# Altium schematic symbol library Resistor - Potentiometer.SchLib: 47 symbols
Pins are listed as number, name and electrical type; pins without a type are passive.

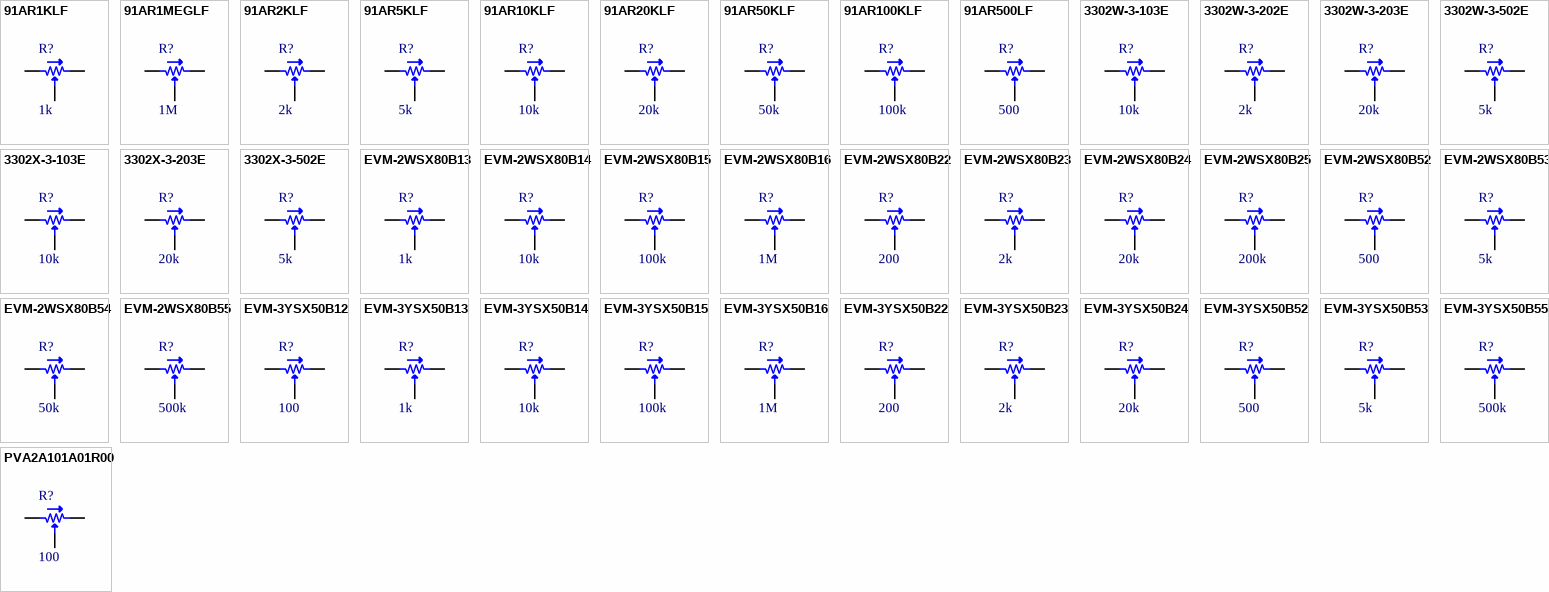
[diagram p0: symbols 91AR1KLF to PVA2A101A01R00]

## 91AR1KLF
designator R?, comment 1k
TRIMMER 1K OHM 3/8" CERMET TH; Part Number: 91AR1KLF; Manufacturer: TT Electronics/BI; Tolerance: 20%; PowerRating: 0.5W, 1/2W; Number Of Turns: Single; Adjustment Type: Top Adjustment; Value: 1k; PartId: 7163; Supplier 1: Digi-Key; Supplier Part Number 1: 987-1168-ND; ComponentLink1Description: Datasheet; ComponentLink1URL: http://www.bitechnologies.com/pdfs/91.pdf; ComponentLink2Description: Digi-Key Listing; ComponentLink2URL: http://www.digikey.ca/product-detail/en/91AR1KLF/987-1168-ND/2408746; Price: 2.25; Type: Through Hole
footprint POT MODEL91A
pins: 1, 2, 3

## 91AR1MEGLF
designator R?, comment 1M
TRIMMER 1M OHM 3/8" CERMET TH; Part Number: 91AR1MEGLF; Manufacturer: TT Electronics/BI; Tolerance: 20%; PowerRating: 0.5W, 1/2W; Number Of Turns: Single; Adjustment Type: Top Adjustment; Value: 1M; PartId: 7170; Supplier 1: Digi-Key; Supplier Part Number 1: 987-1169-ND; ComponentLink1Description: Datasheet; ComponentLink1URL: http://www.bitechnologies.com/pdfs/91.pdf; ComponentLink2Description: Digi-Key Listing; ComponentLink2URL: http://www.digikey.ca/product-detail/en/91AR1MEGLF/987-1169-ND/2408747; Price: 1.88; Type: Through Hole
footprint POT MODEL91A
pins: 1, 2, 3

## 91AR2KLF
designator R?, comment 2k
TRIMMER 2K OHM 3/8" CERMET TH; Part Number: 91AR2KLF; Manufacturer: TT Electronics/BI; Tolerance: 20%; PowerRating: 0.5W, 1/2W; Number Of Turns: Single; Adjustment Type: Top Adjustment; Value: 2k; PartId: 7164; Supplier 1: Digi-Key; Supplier Part Number 1: 987-1624-ND; ComponentLink1Description: Datasheet; ComponentLink1URL: http://www.bitechnologies.com/pdfs/91.pdf; ComponentLink2Description: Digi-Key Listing; ComponentLink2URL: http://www.digikey.ca/product-detail/en/91AR2KLF/987-1624-ND/3945850; Price: 2.25; Type: Through Hole
footprint POT MODEL91A
pins: 1, 2, 3

## 91AR5KLF
designator R?, comment 5k
TRIMMER 5K OHM 3/8" CERMET TH; Part Number: 91AR5KLF; Manufacturer: TT Electronics/BI; Tolerance: 20%; PowerRating: 0.5W, 1/2W; Number Of Turns: Single; Adjustment Type: Top Adjustment; Value: 5k; PartId: 7165; Supplier 1: Digi-Key; Supplier Part Number 1: 987-1171-ND; ComponentLink1Description: Datasheet; ComponentLink1URL: http://www.bitechnologies.com/pdfs/91.pdf; ComponentLink2Description: Digi-Key Listing; ComponentLink2URL: http://www.digikey.ca/product-detail/en/91AR5KLF/987-1171-ND/2408749; Price: 1.88; Type: Through Hole
footprint POT MODEL91A
pins: 1, 2, 3

## 91AR10KLF
designator R?, comment 10k
TRIMMER 10K OHM 3/8" CERMET TH; Part Number: 91AR10KLF; Manufacturer: TT Electronics/BI; Tolerance: 20%; PowerRating: 0.5W, 1/2W; Number Of Turns: Single; Adjustment Type: Top Adjustment; Value: 10k; PartId: 7166; Supplier 1: Digi-Key; Supplier Part Number 1: 987-1167-ND; ComponentLink1Description: Datasheet; ComponentLink1URL: http://www.bitechnologies.com/pdfs/91.pdf; ComponentLink2Description: Digi-Key Listing; ComponentLink2URL: http://www.digikey.ca/product-detail/en/91AR10KLF/987-1167-ND/2408745; Price: 2.25; Type: Through Hole
footprint POT MODEL91A
pins: 1, 2, 3

## 91AR20KLF
designator R?, comment 20k
TRIMMER 20K OHM 3/8" CERMET TH; Part Number: 91AR20KLF; Manufacturer: TT Electronics/BI; Tolerance: 20%; PowerRating: 0.5W, 1/2W; Number Of Turns: Single; Adjustment Type: Top Adjustment; Value: 20k; PartId: 7167; Supplier 1: Digi-Key; Supplier Part Number 1: 987-1170-ND; ComponentLink1Description: Datasheet; ComponentLink1URL: http://www.bitechnologies.com/pdfs/91.pdf; ComponentLink2Description: Digi-Key Listing; ComponentLink2URL: http://www.digikey.ca/product-detail/en/91AR20KLF/987-1170-ND/2408748; Price: 2.25; Type: Through Hole
footprint POT MODEL91A
pins: 1, 2, 3

## 91AR50KLF
designator R?, comment 50k
TRIMMER 50K OHM 3/8" CERMET TH; Part Number: 91AR50KLF; Manufacturer: TT Electronics/BI; Tolerance: 20%; PowerRating: 0.5W, 1/2W; Number Of Turns: Single; Adjustment Type: Top Adjustment; Value: 50k; PartId: 7168; Supplier 1: Digi-Key; Supplier Part Number 1: 987-1625-ND; ComponentLink1Description: Datasheet; ComponentLink1URL: http://www.bitechnologies.com/pdfs/91.pdf; ComponentLink2Description: Digi-Key Listing; ComponentLink2URL: http://www.digikey.ca/product-detail/en/91AR50KLF/987-1625-ND/3945849; Price: 2.25; Type: Through Hole
footprint POT MODEL91A
pins: 1, 2, 3

## 91AR100KLF
designator R?, comment 100k
TRIMMER 100K OHM 3/8" CERMET TH; Part Number: 91AR100KLF; Manufacturer: TT Electronics/BI; Tolerance: 20%; PowerRating: 0.5W, 1/2W; Number Of Turns: Single; Adjustment Type: Top Adjustment; Value: 100k; PartId: 7169; Supplier 1: Digi-Key; Supplier Part Number 1: 987-1166-ND; ComponentLink1Description: Datasheet; ComponentLink1URL: http://www.bitechnologies.com/pdfs/91.pdf; ComponentLink2Description: Digi-Key Listing; ComponentLink2URL: http://www.digikey.ca/product-detail/en/91AR100KLF/987-1166-ND/2408744; Price: 2.25; Type: Through Hole
footprint POT MODEL91A
pins: 1, 2, 3

## 91AR500LF
designator R?, comment 500
TRIMMER 500 OHM 3/8" CERMET TH; Part Number: 91AR500LF; Manufacturer: TT Electronics/BI; Tolerance: 20%; PowerRating: 0.5W, 1/2W; Number Of Turns: Single; Adjustment Type: Top Adjustment; Value: 500; PartId: 7162; Supplier 1: Digi-Key; Supplier Part Number 1: 987-1564-ND; ComponentLink1Description: Datasheet; ComponentLink1URL: http://www.bitechnologies.com/pdfs/91.pdf; ComponentLink2Description: Digi-Key Listing; ComponentLink2URL: http://www.digikey.ca/product-detail/en/91AR500LF/987-1564-ND/3587322; Price: 2.25; Type: Through Hole
footprint POT MODEL91A
pins: 1, 2, 3

## 3302W-3-103E
designator R?, comment 10k
TRIMMER 10K OHM 0.15W SMD; Part Number: 3302W-3-103E; Manufacturer: Bourns Inc.; TemperatureCoefficient: 250ppm/C; Tolerance: 25%; Number Of Turns: 1; Adjustment Type: Top Adjustment; Value: 10k; PartId: 29445; Supplier 1: Digi-Key; Supplier Part Number 1: 3302W-103ECT-ND; ComponentLink1Description: Datasheet; ComponentLink1URL: http://www.bourns.com/docs/Product-Datasheets/3302.pdf; ComponentLink2Description: Digi-Key Listing; ComponentLink2URL: https://www.digikey.com/product-detail/en/bourns-inc/3302W-3-103E/3302W-103ECT-ND/612876; PowerRating: 0.15W; Price: 0.97
footprint POT BOURNS TRIMPOT 3302
pins: 1, 2, 3

## 3302W-3-202E
designator R?, comment 2k
TRIMMER 2K OHM 0.15W SMD; Part Number: 3302W-3-202E; Manufacturer: Bourns Inc.; TemperatureCoefficient: 250ppm/C; Tolerance: 25%; Number Of Turns: 1; Adjustment Type: Top Adjustment; Value: 2k; PartId: 29441; Supplier 1: Digi-Key; Supplier Part Number 1: 3302W-3-202ECT-ND; ComponentLink1Description: Datasheet; ComponentLink1URL: http://www.bourns.com/docs/Product-Datasheets/3302.pdf; ComponentLink2Description: Digi-Key Listing; ComponentLink2URL: https://www.digikey.com/product-detail/en/bourns-inc/3302W-3-202E/3302W-3-202ECT-ND/612877; PowerRating: 0.15W; Price: 0.97
footprint POT BOURNS TRIMPOT 3302
pins: 1, 2, 3

## 3302W-3-203E
designator R?, comment 20k
TRIMMER 20K OHM 0.15W SMD; Part Number: 3302W-3-203E; Manufacturer: Bourns Inc.; TemperatureCoefficient: 250ppm/C; Tolerance: 25%; Number Of Turns: 1; Adjustment Type: Top Adjustment; Value: 20k; PartId: 29442; Supplier 1: Digi-Key; Supplier Part Number 1: 3302W-203ECT-ND; ComponentLink1Description: Datasheet; ComponentLink1URL: http://www.bourns.com/docs/Product-Datasheets/3302.pdf; ComponentLink2Description: Digi-Key Listing; ComponentLink2URL: https://www.digikey.com/product-detail/en/bourns-inc/3302W-3-203E/3302W-203ECT-ND/612878; PowerRating: 0.15W; Price: 0.97
footprint POT BOURNS TRIMPOT 3302
pins: 1, 2, 3

## 3302W-3-502E
designator R?, comment 5k
TRIMMER 5K OHM 0.15W SMD; Part Number: 3302W-3-502E; Manufacturer: Bourns Inc.; TemperatureCoefficient: 250ppm/C; Tolerance: 25%; Number Of Turns: 1; Adjustment Type: Top Adjustment; Value: 5k; PartId: 29440; Supplier 1: Digi-Key; Supplier Part Number 1: 3302W-502ECT-ND; ComponentLink1Description: Datasheet; ComponentLink1URL: http://www.bourns.com/docs/Product-Datasheets/3302.pdf; ComponentLink2Description: Digi-Key Listing; ComponentLink2URL: https://www.digikey.com/product-detail/en/bourns-inc/3302W-3-502E/3302W-502ECT-ND/612879; PowerRating: 0.15W; Price: 0.97
footprint POT BOURNS TRIMPOT 3302
pins: 1, 2, 3

## 3302X-3-103E
designator R?, comment 10k
TRIMMER 10K OHM 0.15W SMD; Part Number: 3302X-3-103E; Manufacturer: Bourns Inc.; TemperatureCoefficient: 250ppm/C; Tolerance: 25%; Number Of Turns: 1; Adjustment Type: Top Adjustment; Value: 10k; PartId: 29443; Supplier 1: Digi-Key; Supplier Part Number 1: 3302X-103ECT-ND; ComponentLink1Description: Datasheet; ComponentLink1URL: http://www.bourns.com/docs/Product-Datasheets/3302.pdf; ComponentLink2Description: Digi-Key Listing; ComponentLink2URL: https://www.digikey.com/product-detail/en/bourns-inc/3302X-3-103E/3302X-103ECT-ND/612880; PowerRating: 0.15W; Price: 0.97
footprint POT BOURNS TRIMPOT 3302
pins: 1, 2, 3

## 3302X-3-203E
designator R?, comment 20k
TRIMMER 20K OHM 0.15W SMD; Part Number: 3302X-3-203E; Manufacturer: Bourns Inc.; TemperatureCoefficient: 250ppm/C; Tolerance: 25%; Number Of Turns: 1; Adjustment Type: Top Adjustment; Value: 20k; PartId: 29446; Supplier 1: Digi-Key; Supplier Part Number 1: 3302X-203ECT-ND; ComponentLink1Description: Datasheet; ComponentLink1URL: http://www.bourns.com/docs/Product-Datasheets/3302.pdf; ComponentLink2Description: Digi-Key Listing; ComponentLink2URL: https://www.digikey.com/product-detail/en/bourns-inc/3302X-3-203E/3302X-203ECT-ND/612881; PowerRating: 0.15W; Price: 0.97
footprint POT BOURNS TRIMPOT 3302
pins: 1, 2, 3

## 3302X-3-502E
designator R?, comment 5k
TRIMMER 5K OHM 0.15W SMD; Part Number: 3302X-3-502E; Manufacturer: Bourns Inc.; TemperatureCoefficient: 250ppm/C; Tolerance: 25%; Number Of Turns: 1; Adjustment Type: Top Adjustment; Value: 5k; PartId: 29444; Supplier 1: Digi-Key; Supplier Part Number 1: 3302X-502ECT-ND; ComponentLink1Description: Datasheet; ComponentLink1URL: http://www.bourns.com/docs/Product-Datasheets/3302.pdf; ComponentLink2Description: Digi-Key Listing; ComponentLink2URL: https://www.digikey.com/product-detail/en/bourns-inc/3302X-3-502E/3302X-502ECT-ND/612882; PowerRating: 0.15W; Price: 0.97
footprint POT BOURNS TRIMPOT 3302
pins: 1, 2, 3

## EVM-2WSX80B13
designator R?, comment 1k
TRIMMER 1K OHM 0.15W SMD; Part Number: EVM-2WSX80B13; Manufacturer: Panasonic Electronic Components; TemperatureCoefficient: 250ppm/C; Tolerance: 25%; Number Of Turns: 1; Adjustment Type: Top Adjustment; Value: 1k; PartId: 9789; Supplier 1: Digi-Key; Supplier Part Number 1: P2W102TR-ND; ComponentLink1Description: Datasheet; ComponentLink1URL: http://industrial.panasonic.com/cdbs/www-data/pdf/AOI0000/AOI0000CE1.pdf; ComponentLink2Description: Digi-Key Listing; ComponentLink2URL: https://www.digikey.com/product-detail/en/panasonic-electronic-components/EVM-2WSX80B13/P2W102TR-ND/259723; PowerRating: 0.15W; Price: 0.2394
footprint POT PANASONIC EVM2W
pins: 1, 2, 3

## EVM-2WSX80B14
designator R?, comment 10k
TRIMMER 10K OHM 0.15W SMD; Part Number: EVM-2WSX80B14; Manufacturer: Panasonic Electronic Components; TemperatureCoefficient: 250ppm/C; Tolerance: 25%; Number Of Turns: 1; Adjustment Type: Top Adjustment; Value: 10k; PartId: 9780; Supplier 1: Digi-Key; Supplier Part Number 1: P2W103TR-ND; ComponentLink1Description: Datasheet; ComponentLink1URL: http://industrial.panasonic.com/cdbs/www-data/pdf/AOI0000/AOI0000CE1.pdf; ComponentLink2Description: Digi-Key Listing; ComponentLink2URL: https://www.digikey.com/product-detail/en/panasonic-electronic-components/EVM-2WSX80B14/P2W103TR-ND/259724; PowerRating: 0.15W; Price: 0.2394
footprint POT PANASONIC EVM2W
pins: 1, 2, 3

## EVM-2WSX80B15
designator R?, comment 100k
TRIMMER 100K OHM 0.15W SMD; Part Number: EVM-2WSX80B15; Manufacturer: Panasonic Electronic Components; TemperatureCoefficient: 250ppm/C; Tolerance: 25%; Number Of Turns: 1; Adjustment Type: Top Adjustment; Value: 100k; PartId: 9790; Supplier 1: Digi-Key; Supplier Part Number 1: P2W104TR-ND; ComponentLink1Description: Datasheet; ComponentLink1URL: http://industrial.panasonic.com/cdbs/www-data/pdf/AOI0000/AOI0000CE1.pdf; ComponentLink2Description: Digi-Key Listing; ComponentLink2URL: https://www.digikey.com/product-detail/en/panasonic-electronic-components/EVM-2WSX80B15/P2W104TR-ND/259725; PowerRating: 0.15W; Price: 0.2394
footprint POT PANASONIC EVM2W
pins: 1, 2, 3

## EVM-2WSX80B16
designator R?, comment 1M
TRIMMER 1M OHM 0.15W SMD; Part Number: EVM-2WSX80B16; Manufacturer: Panasonic Electronic Components; TemperatureCoefficient: 250ppm/C; Tolerance: 25%; Number Of Turns: 1; Adjustment Type: Top Adjustment; Value: 1M; PartId: 9786; Supplier 1: Digi-Key; Supplier Part Number 1: P2W105TR-ND; ComponentLink1Description: Datasheet; ComponentLink1URL: http://industrial.panasonic.com/cdbs/www-data/pdf/AOI0000/AOI0000CE1.pdf; ComponentLink2Description: Digi-Key Listing; ComponentLink2URL: https://www.digikey.com/product-detail/en/panasonic-electronic-components/EVM-2WSX80B16/P2W105TR-ND/259726; PowerRating: 0.15W; Price: 0.2394
footprint POT PANASONIC EVM2W
pins: 1, 2, 3

## EVM-2WSX80B22
designator R?, comment 200
TRIMMER 200 OHM 0.15W SMD; Part Number: EVM-2WSX80B22; Manufacturer: Panasonic Electronic Components; TemperatureCoefficient: 250ppm/C; Tolerance: 25%; Number Of Turns: 1; Adjustment Type: Top Adjustment; Value: 200; PartId: 9779; Supplier 1: Digi-Key; Supplier Part Number 1: P2W201TR-ND; ComponentLink1Description: Datasheet; ComponentLink1URL: http://industrial.panasonic.com/cdbs/www-data/pdf/AOI0000/AOI0000CE1.pdf; ComponentLink2Description: Digi-Key Listing; ComponentLink2URL: https://www.digikey.com/product-detail/en/panasonic-electronic-components/EVM-2WSX80B22/P2W201TR-ND/259727; PowerRating: 0.15W; Price: 0.2394
footprint POT PANASONIC EVM2W
pins: 1, 2, 3

## EVM-2WSX80B23
designator R?, comment 2k
TRIMMER 2K OHM 0.15W SMD; Part Number: EVM-2WSX80B23; Manufacturer: Panasonic Electronic Components; TemperatureCoefficient: 250ppm/C; Tolerance: 25%; Number Of Turns: 1; Adjustment Type: Top Adjustment; Value: 2k; PartId: 9784; Supplier 1: Digi-Key; Supplier Part Number 1: P2W202TR-ND; ComponentLink1Description: Datasheet; ComponentLink1URL: http://industrial.panasonic.com/cdbs/www-data/pdf/AOI0000/AOI0000CE1.pdf; ComponentLink2Description: Digi-Key Listing; ComponentLink2URL: https://www.digikey.com/product-detail/en/panasonic-electronic-components/EVM-2WSX80B23/P2W202TR-ND/259728; PowerRating: 0.15W; Price: 0.2394
footprint POT PANASONIC EVM2W
pins: 1, 2, 3

## EVM-2WSX80B24
designator R?, comment 20k
TRIMMER 20K OHM 0.15W SMD; Part Number: EVM-2WSX80B24; Manufacturer: Panasonic Electronic Components; TemperatureCoefficient: 250ppm/C; Tolerance: 25%; Number Of Turns: 1; Adjustment Type: Top Adjustment; Value: 20k; PartId: 9781; Supplier 1: Digi-Key; Supplier Part Number 1: P2W203TR-ND; ComponentLink1Description: Datasheet; ComponentLink1URL: http://industrial.panasonic.com/cdbs/www-data/pdf/AOI0000/AOI0000CE1.pdf; ComponentLink2Description: Digi-Key Listing; ComponentLink2URL: https://www.digikey.com/product-detail/en/panasonic-electronic-components/EVM-2WSX80B24/P2W203TR-ND/259729; PowerRating: 0.15W; Price: 0.2394
footprint POT PANASONIC EVM2W
pins: 1, 2, 3

## EVM-2WSX80B25
designator R?, comment 200k
TRIMMER 200K OHM 0.15W SMD; Part Number: EVM-2WSX80B25; Manufacturer: Panasonic Electronic Components; TemperatureCoefficient: 250ppm/C; Tolerance: 25%; Number Of Turns: 1; Adjustment Type: Top Adjustment; Value: 200k; PartId: 9788; Supplier 1: Digi-Key; Supplier Part Number 1: P2W204TR-ND; ComponentLink1Description: Datasheet; ComponentLink1URL: http://industrial.panasonic.com/cdbs/www-data/pdf/AOI0000/AOI0000CE1.pdf; ComponentLink2Description: Digi-Key Listing; ComponentLink2URL: https://www.digikey.com/product-detail/en/panasonic-electronic-components/EVM-2WSX80B25/P2W204TR-ND/259730; PowerRating: 0.15W; Price: 0.2394
footprint POT PANASONIC EVM2W
pins: 1, 2, 3

## EVM-2WSX80B52
designator R?, comment 500
TRIMMER 500 OHM 0.15W SMD; Part Number: EVM-2WSX80B52; Manufacturer: Panasonic Electronic Components; TemperatureCoefficient: 250ppm/C; Tolerance: 25%; Number Of Turns: 1; Adjustment Type: Top Adjustment; Value: 500; PartId: 9785; Supplier 1: Digi-Key; Supplier Part Number 1: P2W501TR-ND; ComponentLink1Description: Datasheet; ComponentLink1URL: http://industrial.panasonic.com/cdbs/www-data/pdf/AOI0000/AOI0000CE1.pdf; ComponentLink2Description: Digi-Key Listing; ComponentLink2URL: https://www.digikey.com/product-detail/en/panasonic-electronic-components/EVM-2WSX80B52/P2W501TR-ND/259731; PowerRating: 0.15W; Price: 0.2394
footprint POT PANASONIC EVM2W
pins: 1, 2, 3

## EVM-2WSX80B53
designator R?, comment 5k
TRIMMER 5K OHM 0.15W SMD; Part Number: EVM-2WSX80B53; Manufacturer: Panasonic Electronic Components; TemperatureCoefficient: 250ppm/C; Tolerance: 25%; Number Of Turns: 1; Adjustment Type: Top Adjustment; Value: 5k; PartId: 9782; Supplier 1: Digi-Key; Supplier Part Number 1: P2W502TR-ND; ComponentLink1Description: Datasheet; ComponentLink1URL: http://industrial.panasonic.com/cdbs/www-data/pdf/AOI0000/AOI0000CE1.pdf; ComponentLink2Description: Digi-Key Listing; ComponentLink2URL: https://www.digikey.com/product-detail/en/panasonic-electronic-components/EVM-2WSX80B53/P2W502TR-ND/259732; PowerRating: 0.15W; Price: 0.2394
footprint POT PANASONIC EVM2W
pins: 1, 2, 3

## EVM-2WSX80B54
designator R?, comment 50k
TRIMMER 50K OHM 0.15W SMD; Part Number: EVM-2WSX80B54; Manufacturer: Panasonic Electronic Components; TemperatureCoefficient: 250ppm/C; Tolerance: 25%; Number Of Turns: 1; Adjustment Type: Top Adjustment; Value: 50k; PartId: 9783; Supplier 1: Digi-Key; Supplier Part Number 1: P2W503TR-ND; ComponentLink1Description: Datasheet; ComponentLink1URL: http://industrial.panasonic.com/cdbs/www-data/pdf/AOI0000/AOI0000CE1.pdf; ComponentLink2Description: Digi-Key Listing; ComponentLink2URL: https://www.digikey.com/product-detail/en/panasonic-electronic-components/EVM-2WSX80B54/P2W503TR-ND/259733; PowerRating: 0.15W; Price: 0.2394
footprint POT PANASONIC EVM2W
pins: 1, 2, 3

## EVM-2WSX80B55
designator R?, comment 500k
TRIMMER 500K OHM 0.15W SMD; Part Number: EVM-2WSX80B55; Manufacturer: Panasonic Electronic Components; TemperatureCoefficient: 250ppm/C; Tolerance: 25%; Number Of Turns: 1; Adjustment Type: Top Adjustment; Value: 500k; PartId: 9787; Supplier 1: Digi-Key; Supplier Part Number 1: P2W504TR-ND; ComponentLink1Description: Datasheet; ComponentLink1URL: http://industrial.panasonic.com/cdbs/www-data/pdf/AOI0000/AOI0000CE1.pdf; ComponentLink2Description: Digi-Key Listing; ComponentLink2URL: https://www.digikey.com/product-detail/en/panasonic-electronic-components/EVM-2WSX80B55/P2W504TR-ND/259734; PowerRating: 0.15W; Price: 0.2394
footprint POT PANASONIC EVM2W
pins: 1, 2, 3

## EVM-3YSX50B12
designator R?, comment 100
TRIMMER 100 OHM 0.15W SMD; Part Number: EVM-3YSX50B12; Manufacturer: Panasonic Electronic Components; TemperatureCoefficient: 250ppm/C; Tolerance: 25%; Number Of Turns: Single; Adjustment Type: Top Adjustment; Value: 100; PartId: 7176; Supplier 1: Digi-Key; Supplier Part Number 1: P3Y101TR-ND; ComponentLink1Description: Datasheet; ComponentLink1URL: http://media.digikey.com/pdf/Data%20Sheets/Panasonic%20Resistors%20Thermistors%20PDFs/EVM-3Y_S_R_Rev2010.pdf; ComponentLink2Description: Digi-Key Listing; ComponentLink2URL: http://www.digikey.ca/product-detail/en/EVM-3YSX50B12/P3Y101TR-ND/259771; PowerRating: 0.15W; Price: 0.2543; Type: Surface Mount
footprint POT Panasonic EVM
pins: 1, 2, 3

## EVM-3YSX50B13
designator R?, comment 1k
TRIMMER 1K OHM 0.15W SMD; Part Number: EVM-3YSX50B13; Manufacturer: Panasonic Electronic Components; TemperatureCoefficient: 250ppm/C; Tolerance: 25%; Number Of Turns: Single; Adjustment Type: Top Adjustment; Value: 1k; PartId: 7171; Supplier 1: Digi-Key; Supplier Part Number 1: P3Y102TR-ND; ComponentLink1Description: Datasheet; ComponentLink1URL: http://media.digikey.com/pdf/Data%20Sheets/Panasonic%20Resistors%20Thermistors%20PDFs/EVM-3Y_S_R_Rev2010.pdf; ComponentLink2Description: Digi-Key Listing; ComponentLink2URL: http://www.digikey.ca/product-detail/en/EVM-3YSX50B13/P3Y102TR-ND/259772; PowerRating: 0.15W; Price: 0.2543; Type: Surface Mount
footprint POT Panasonic EVM
pins: 1, 2, 3

## EVM-3YSX50B14
designator R?, comment 10k
TRIMMER 10K OHM 0.15W SMD; Part Number: EVM-3YSX50B14; Manufacturer: Panasonic Electronic Components; TemperatureCoefficient: 250ppm/C; Tolerance: 25%; Number Of Turns: Single; Adjustment Type: Top Adjustment; Value: 10k; PartId: 7172; Supplier 1: Digi-Key; Supplier Part Number 1: P3Y103TR-ND; ComponentLink1Description: Datasheet; ComponentLink1URL: http://media.digikey.com/pdf/Data%20Sheets/Panasonic%20Resistors%20Thermistors%20PDFs/EVM-3Y_S_R_Rev2010.pdf; ComponentLink2Description: Digi-Key Listing; ComponentLink2URL: http://www.digikey.ca/product-detail/en/EVM-3YSX50B14/P3Y103TR-ND/259773; PowerRating: 0.15W; Price: 0.2543; Type: Surface Mount
footprint POT Panasonic EVM
pins: 1, 2, 3

## EVM-3YSX50B15
designator R?, comment 100k
TRIMMER 100K OHM 0.15W SMD; Part Number: EVM-3YSX50B15; Manufacturer: Panasonic Electronic Components; TemperatureCoefficient: 250ppm/C; Tolerance: 25%; Number Of Turns: Single; Adjustment Type: Top Adjustment; Value: 100k; PartId: 7174; Supplier 1: Digi-Key; Supplier Part Number 1: P3Y104TR-ND; ComponentLink1Description: Datasheet; ComponentLink1URL: http://media.digikey.com/pdf/Data%20Sheets/Panasonic%20Resistors%20Thermistors%20PDFs/EVM-3Y_S_R_Rev2010.pdf; ComponentLink2Description: Digi-Key Listing; ComponentLink2URL: http://www.digikey.ca/product-detail/en/EVM-3YSX50B15/P3Y104TR-ND/259774; PowerRating: 0.15W; Price: 0.2543; Type: Surface Mount
footprint POT Panasonic EVM
pins: 1, 2, 3

## EVM-3YSX50B16
designator R?, comment 1M
TRIMMER 1M OHM 0.15W SMD; Part Number: EVM-3YSX50B16; Manufacturer: Panasonic Electronic Components; TemperatureCoefficient: 250ppm/C; Tolerance: 25%; Number Of Turns: Single; Adjustment Type: Top Adjustment; Value: 1M; PartId: 7180; Supplier 1: Digi-Key; Supplier Part Number 1: P3Y105TR-ND; ComponentLink1Description: Datasheet; ComponentLink1URL: http://media.digikey.com/pdf/Data%20Sheets/Panasonic%20Resistors%20Thermistors%20PDFs/EVM-3Y_S_R_Rev2010.pdf; ComponentLink2Description: Digi-Key Listing; ComponentLink2URL: http://www.digikey.ca/product-detail/en/EVM-3YSX50B16/P3Y105TR-ND/259775; PowerRating: 0.15W; Price: 0.2543; Type: Surface Mount
footprint POT Panasonic EVM
pins: 1, 2, 3

## EVM-3YSX50B22
designator R?, comment 200
TRIMMER 200 OHM 0.15W SMD; Part Number: EVM-3YSX50B22; Manufacturer: Panasonic Electronic Components; TemperatureCoefficient: 250ppm/C; Tolerance: 25%; Number Of Turns: Single; Adjustment Type: Top Adjustment; Value: 200; PartId: 7173; Supplier 1: Digi-Key; Supplier Part Number 1: P3Y201TR-ND; ComponentLink1Description: Datasheet; ComponentLink1URL: http://media.digikey.com/pdf/Data%20Sheets/Panasonic%20Resistors%20Thermistors%20PDFs/EVM-3Y_S_R_Rev2010.pdf; ComponentLink2Description: Digi-Key Listing; ComponentLink2URL: http://www.digikey.ca/product-detail/en/EVM-3YSX50B22/P3Y201TR-ND/259776; PowerRating: 0.15W; Price: 0.2543; Type: Surface Mount
footprint POT Panasonic EVM
pins: 1, 2, 3

## EVM-3YSX50B23
designator R?, comment 2k
TRIMMER 2K OHM 0.15W SMD; Part Number: EVM-3YSX50B23; Manufacturer: Panasonic Electronic Components; TemperatureCoefficient: 250ppm/C; Tolerance: 25%; Number Of Turns: Single; Adjustment Type: Top Adjustment; Value: 2k; PartId: 7179; Supplier 1: Digi-Key; Supplier Part Number 1: P3Y202TR-ND; ComponentLink1Description: Datasheet; ComponentLink1URL: http://media.digikey.com/pdf/Data%20Sheets/Panasonic%20Resistors%20Thermistors%20PDFs/EVM-3Y_S_R_Rev2010.pdf; ComponentLink2Description: Digi-Key Listing; ComponentLink2URL: http://www.digikey.ca/product-detail/en/EVM-3YSX50B23/P3Y202TR-ND/259777; PowerRating: 0.15W; Price: 0.2543; Type: Surface Mount
footprint POT Panasonic EVM
pins: 1, 2, 3

## EVM-3YSX50B24
designator R?, comment 20k
TRIMMER 20K OHM 0.15W SMD; Part Number: EVM-3YSX50B24; Manufacturer: Panasonic Electronic Components; TemperatureCoefficient: 250ppm/C; Tolerance: 25%; Number Of Turns: Single; Adjustment Type: Top Adjustment; Value: 20k; PartId: 7177; Supplier 1: Digi-Key; Supplier Part Number 1: P3Y203TR-ND; ComponentLink1Description: Datasheet; ComponentLink1URL: http://media.digikey.com/pdf/Data%20Sheets/Panasonic%20Resistors%20Thermistors%20PDFs/EVM-3Y_S_R_Rev2010.pdf; ComponentLink2Description: Digi-Key Listing; ComponentLink2URL: http://www.digikey.ca/product-detail/en/EVM-3YSX50B24/P3Y203TR-ND/259778; PowerRating: 0.15W; Price: 0.2543; Type: Surface Mount
footprint POT Panasonic EVM
pins: 1, 2, 3

## EVM-3YSX50B52
designator R?, comment 500
TRIMMER 500 OHM 0.15W SMD; Part Number: EVM-3YSX50B52; Manufacturer: Panasonic Electronic Components; TemperatureCoefficient: 250ppm/C; Tolerance: 25%; Number Of Turns: Single; Adjustment Type: Top Adjustment; Value: 500; PartId: 7175; Supplier 1: Digi-Key; Supplier Part Number 1: P3Y501TR-ND; ComponentLink1Description: Datasheet; ComponentLink1URL: http://media.digikey.com/pdf/Data%20Sheets/Panasonic%20Resistors%20Thermistors%20PDFs/EVM-3Y_S_R_Rev2010.pdf; ComponentLink2Description: Digi-Key Listing; ComponentLink2URL: http://www.digikey.ca/product-detail/en/EVM-3YSX50B52/P3Y501TR-ND/259780; PowerRating: 0.15W; Price: 0.2543; Type: Surface Mount
footprint POT Panasonic EVM
pins: 1, 2, 3

## EVM-3YSX50B53
designator R?, comment 5k
TRIMMER 5K OHM 0.15W SMD; Part Number: EVM-3YSX50B53; Manufacturer: Panasonic Electronic Components; TemperatureCoefficient: 250ppm/C; Tolerance: 25%; Number Of Turns: Single; Adjustment Type: Top Adjustment; Value: 5k; PartId: 7178; Supplier 1: Digi-Key; Supplier Part Number 1: P3Y502TR-ND; ComponentLink1Description: Datasheet; ComponentLink1URL: http://media.digikey.com/pdf/Data%20Sheets/Panasonic%20Resistors%20Thermistors%20PDFs/EVM-3Y_S_R_Rev2010.pdf; ComponentLink2Description: Digi-Key Listing; ComponentLink2URL: http://www.digikey.ca/product-detail/en/EVM-3YSX50B53/P3Y502TR-ND/259781; PowerRating: 0.15W; Price: 0.2543; Type: Surface Mount
footprint POT Panasonic EVM
pins: 1, 2, 3

## EVM-3YSX50B55
designator R?, comment 500k
TRIMMER 500K OHM 0.15W SMD; Part Number: EVM-3YSX50B55; Manufacturer: Panasonic Electronic Components; TemperatureCoefficient: 250ppm/C; Tolerance: 25%; Number Of Turns: Single; Adjustment Type: Top Adjustment; Value: 500k; PartId: 7181; Supplier 1: Digi-Key; Supplier Part Number 1: P3Y504TR-ND; ComponentLink1Description: Datasheet; ComponentLink1URL: http://media.digikey.com/pdf/Data%20Sheets/Panasonic%20Resistors%20Thermistors%20PDFs/EVM-3Y_S_R_Rev2010.pdf; ComponentLink2Description: Digi-Key Listing; ComponentLink2URL: http://www.digikey.ca/product-detail/en/EVM-3YSX50B55/P3Y504TR-ND/259783; PowerRating: 0.15W; Price: 0.2543; Type: Surface Mount
footprint POT Panasonic EVM
pins: 1, 2, 3

## PVA2A101A01R00
designator R?, comment 100
TRIMMER 100 OHM 0.1W SMD; Part Number: PVA2A101A01R00; Manufacturer: Murata Electronics North America; TemperatureCoefficient: 250ppm/C; Tolerance: 25%; PowerRating: 0.1W, 1/10W; Number Of Turns: Single; Adjustment Type: Top Adjustment; Value: 100; PartId: 7182; Supplier 1: Digi-Key; Supplier Part Number 1: 490-3915-2-ND; ComponentLink1Description: Datasheet; ComponentLink1URL: http://search.murata.co.jp/Ceramy/image/img/w_hinm/L0060E.pdf; ComponentLink2Description: Digi-Key Listing; ComponentLink2URL: http://www.digikey.ca/product-detail/en/PVA2A101A01R00/490-3915-2-ND/966653; Price: 0.229; Type: Surface Mount
footprint POT Murata PVA2
pins: 1, 2, 3

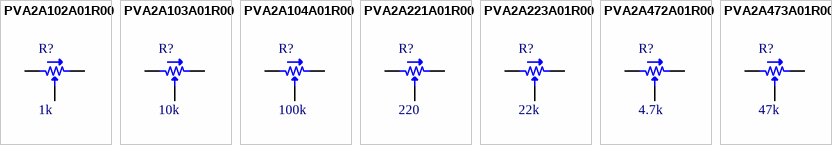
[diagram p1: symbols PVA2A102A01R00 to PVA2A473A01R00]

## PVA2A102A01R00
designator R?, comment 1k
TRIMMER 1K OHM 0.1W SMD; Part Number: PVA2A102A01R00; Manufacturer: Murata Electronics North America; TemperatureCoefficient: 250ppm/C; Tolerance: 25%; PowerRating: 0.1W, 1/10W; Number Of Turns: Single; Adjustment Type: Top Adjustment; Value: 1k; PartId: 7184; Supplier 1: Digi-Key; Supplier Part Number 1: 490-3921-2-ND; ComponentLink1Description: Datasheet; ComponentLink1URL: http://search.murata.co.jp/Ceramy/image/img/w_hinm/L0060E.pdf; ComponentLink2Description: Digi-Key Listing; ComponentLink2URL: http://www.digikey.ca/product-detail/en/PVA2A102A01R00/490-3921-2-ND/966659; Price: 0.229; Type: Surface Mount
footprint POT Murata PVA2
pins: 1, 2, 3

## PVA2A103A01R00
designator R?, comment 10k
TRIMMER 10K OHM 0.1W SMD; Part Number: PVA2A103A01R00; Manufacturer: Murata Electronics North America; TemperatureCoefficient: 250ppm/C; Tolerance: 25%; PowerRating: 0.1W, 1/10W; Number Of Turns: Single; Adjustment Type: Top Adjustment; Value: 10k; PartId: 7186; Supplier 1: Digi-Key; Supplier Part Number 1: 490-3927-2-ND; ComponentLink1Description: Datasheet; ComponentLink1URL: http://search.murata.co.jp/Ceramy/image/img/w_hinm/L0060E.pdf; ComponentLink2Description: Digi-Key Listing; ComponentLink2URL: http://www.digikey.ca/product-detail/en/PVA2A103A01R00/490-3927-2-ND/966665; Price: 0.229; Type: Surface Mount
footprint POT Murata PVA2
pins: 1, 2, 3

## PVA2A104A01R00
designator R?, comment 100k
TRIMMER 100K OHM 0.1W SMD; Part Number: PVA2A104A01R00; Manufacturer: Murata Electronics North America; TemperatureCoefficient: 250ppm/C; Tolerance: 25%; PowerRating: 0.1W, 1/10W; Number Of Turns: Single; Adjustment Type: Top Adjustment; Value: 100k; PartId: 7189; Supplier 1: Digi-Key; Supplier Part Number 1: 490-3933-2-ND; ComponentLink1Description: Datasheet; ComponentLink1URL: http://search.murata.co.jp/Ceramy/image/img/w_hinm/L0060E.pdf; ComponentLink2Description: Digi-Key Listing; ComponentLink2URL: http://www.digikey.ca/product-detail/en/PVA2A104A01R00/490-3933-2-ND/966671; Price: 0.229; Type: Surface Mount
footprint POT Murata PVA2
pins: 1, 2, 3

## PVA2A221A01R00
designator R?, comment 220
TRIMMER 220 OHM 0.1W SMD; Part Number: PVA2A221A01R00; Manufacturer: Murata Electronics North America; TemperatureCoefficient: 250ppm/C; Tolerance: 25%; PowerRating: 0.1W, 1/10W; Number Of Turns: Single; Adjustment Type: Top Adjustment; Value: 220; PartId: 7183; Supplier 1: Digi-Key; Supplier Part Number 1: 490-3917-2-ND; ComponentLink1Description: Datasheet; ComponentLink1URL: http://search.murata.co.jp/Ceramy/image/img/w_hinm/L0060E.pdf; ComponentLink2Description: Digi-Key Listing; ComponentLink2URL: http://www.digikey.ca/product-detail/en/PVA2A221A01R00/490-3917-2-ND/966655; Price: 0.229; Type: Surface Mount
footprint POT Murata PVA2
pins: 1, 2, 3

## PVA2A223A01R00
designator R?, comment 22k
TRIMMER 22K OHM 0.1W SMD; Part Number: PVA2A223A01R00; Manufacturer: Murata Electronics North America; TemperatureCoefficient: 250ppm/C; Tolerance: 25%; PowerRating: 0.1W, 1/10W; Number Of Turns: Single; Adjustment Type: Top Adjustment; Value: 22k; PartId: 7187; Supplier 1: Digi-Key; Supplier Part Number 1: 490-3929-2-ND; ComponentLink1Description: Datasheet; ComponentLink1URL: http://search.murata.co.jp/Ceramy/image/img/w_hinm/L0060E.pdf; ComponentLink2Description: Digi-Key Listing; ComponentLink2URL: http://www.digikey.ca/product-detail/en/PVA2A223A01R00/490-3929-2-ND/966667; Price: 0.229; Type: Surface Mount
footprint POT Murata PVA2
pins: 1, 2, 3

## PVA2A472A01R00
designator R?, comment 4.7k
TRIMMER 4.7K OHM 0.1W SMD; Part Number: PVA2A472A01R00; Manufacturer: Murata Electronics North America; TemperatureCoefficient: 250ppm/C; Tolerance: 25%; PowerRating: 0.1W, 1/10W; Number Of Turns: Single; Adjustment Type: Top Adjustment; Value: 4.7k; PartId: 7185; Supplier 1: Digi-Key; Supplier Part Number 1: 490-3925-2-ND; ComponentLink1Description: Datasheet; ComponentLink1URL: http://search.murata.co.jp/Ceramy/image/img/w_hinm/L0060E.pdf; ComponentLink2Description: Digi-Key Listing; ComponentLink2URL: http://www.digikey.ca/product-detail/en/PVA2A472A01R00/490-3925-2-ND/966663; Price: 0.229; Type: Surface Mount
footprint POT Murata PVA2
pins: 1, 2, 3

## PVA2A473A01R00
designator R?, comment 47k
TRIMMER 47K OHM 0.1W SMD; Part Number: PVA2A473A01R00; Manufacturer: Murata Electronics North America; TemperatureCoefficient: 250ppm/C; Tolerance: 25%; PowerRating: 0.1W, 1/10W; Number Of Turns: Single; Adjustment Type: Top Adjustment; Value: 47k; PartId: 7188; Supplier 1: Digi-Key; Supplier Part Number 1: 490-3931-2-ND; ComponentLink1Description: Datasheet; ComponentLink1URL: http://search.murata.co.jp/Ceramy/image/img/w_hinm/L0060E.pdf; ComponentLink2Description: Digi-Key Listing; ComponentLink2URL: http://www.digikey.ca/product-detail/en/PVA2A473A01R00/490-3931-2-ND/966669; Price: 0.229; Type: Surface Mount
footprint POT Murata PVA2
pins: 1, 2, 3